# Altium schematic symbol library myRLC.SchLib: 41 symbols
Pins are listed as number, name and electrical type; pins without a type are passive.

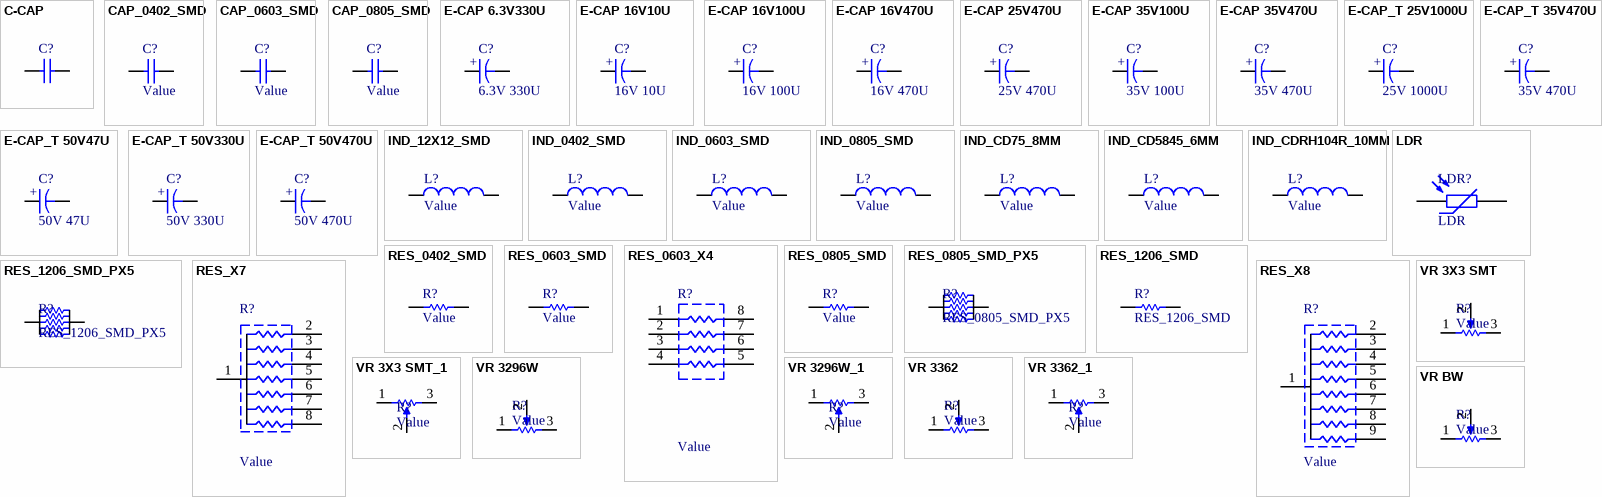
[diagram p0: symbols C-CAP to VR BW]

## C-CAP
designator C?
Ceramic Capacitor; Published: 8-Jun-2000; LatestRevisionDate: 17-Jul-2002; LatestRevisionNote: Re-released for DXP Platform.; PackageReference: RAD-0.3; Publisher: Altium Limited
footprint C-CAP
pins: 1, 2

## CAP_0402_SMD
designator C?, comment Value
Capacitor, 0402, SMD; Published: 8-Jun-2000; LatestRevisionDate: 17-Jul-2002; LatestRevisionNote: Re-released for DXP Platform.; PackageReference: RAD-0.3; Publisher: Altium Limited
footprint CAP_0402_SMD
pins: 1, 2

## CAP_0603_SMD
designator C?, comment Value
Capacitor, 0603, SMD; Published: 8-Jun-2000; LatestRevisionDate: 17-Jul-2002; LatestRevisionNote: Re-released for DXP Platform.; PackageReference: RAD-0.3; Publisher: Altium Limited
footprint CAP_0603_SMD
pins: 1, 2

## CAP_0805_SMD
designator C?, comment Value
Capacitor, 0805, SMD; Published: 8-Jun-2000; LatestRevisionDate: 17-Jul-2002; LatestRevisionNote: Re-released for DXP Platform.; PackageReference: RAD-0.3; Publisher: Altium Limited
footprint CAP_0805_SMD
pins: 1, 2

## E-CAP 6.3V330U
designator C?, comment 6.3V 330U
E-CAP 6.3V330U; Published: 23-Sep-2002; PackageReference: CAPR5-4X5; Publisher: Altium Limited
footprint E-CAP 6.3V330U (D6.3x7.8)
pins: 1 +, 2 -

## E-CAP 16V10U
designator C?, comment 16V 10U
E-CAP 16V10U; Published: 23-Sep-2002; PackageReference: CAPR5-4X5; Publisher: Altium Limited
footprint E-CAP 16V10U (D4x5)
pins: 1 +, 2 -

## E-CAP 16V100U
designator C?, comment 16V 100U
E-CAP 16V100U; Published: 23-Sep-2002; PackageReference: CAPR5-4X5; Publisher: Altium Limited
footprint E-CAP 16V100U (D6.3x5.4)
pins: 1 +, 2 -

## E-CAP 16V470U
designator C?, comment 16V 470U
E-CAP 16V470U; Published: 23-Sep-2002; PackageReference: CAPR5-4X5; Publisher: Altium Limited
footprint E-CAP 16V470U (D8x10.4)
pins: 1 +, 2 -

## E-CAP 25V470U
designator C?, comment 25V 470U
E-CAP 25V470U; Published: 23-Sep-2002; PackageReference: CAPR5-4X5; Publisher: Altium Limited
footprint E-CAP 25V470U (D9x10.4)
pins: 1 +, 2 -

## E-CAP 35V100U
designator C?, comment 35V 100U
E-CAP 35V100U; Published: 23-Sep-2002; PackageReference: CAPR5-4X5; Publisher: Altium Limited
footprint E-CAP 35V100U (D6.3x7.8)
pins: 1 +, 2 -

## E-CAP 35V470U
designator C?, comment 35V 470U
E-CAP 35V470U; Published: 23-Sep-2002; PackageReference: CAPR5-4X5; Publisher: Altium Limited
footprint E-CAP 35V470U (D10x10.5)
pins: 1 +, 2 -

## E-CAP_T 25V1000U
designator C?, comment 25V 1000U
E-CAP 25V1000U, Through Hole; Published: 23-Sep-2002; PackageReference: CAPR5-4X5; Publisher: Altium Limited
footprint E-CAP_T 25V1000U
pins: 1 +, 2 -

## E-CAP_T 35V470U
designator C?, comment 35V 470U
E-CAP 35V470U, Through Hole; Published: 23-Sep-2002; PackageReference: CAPR5-4X5; Publisher: Altium Limited
footprint E-CAP_T 35V470U
pins: 1 +, 2 -

## E-CAP_T 50V47U
designator C?, comment 50V 47U
E-CAP 50V47U, Through Hole; Published: 23-Sep-2002; PackageReference: CAPR5-4X5; Publisher: Altium Limited
footprint E-CAP_T 50V47U
pins: 1 +, 2 -

## E-CAP_T 50V330U
designator C?, comment 50V 330U
E-CAP 50V330U, Through Hole; Published: 23-Sep-2002; PackageReference: CAPR5-4X5; Publisher: Altium Limited
footprint E-CAP_T 50V330U
pins: 1 +, 2 -

## E-CAP_T 50V470U
designator C?, comment 50V 470U
E-CAP 50V470U, Through Hole; Published: 23-Sep-2002; PackageReference: CAPR5-4X5; Publisher: Altium Limited
footprint E-CAP_T 50V470U
pins: 1 +, 2 -

## IND_12X12_SMD
designator L?, comment Value
Inductor, 12x12, SMD; Code_IEC: 1005; Published: 8-Jun-2000; LatestRevisionDate: 29-May-2009; LatestRevisionNote: IPC-7351 Footprint Added.; PackageReference: 0402-A; Publisher: Altium Limited; PackageDescription: Chip Inductor; Code_JEITA: 0402
footprint IND_12x12
pins: 1, 2

## IND_0402_SMD
designator L?, comment Value
Inductor, 0402, SMD; Code_IEC: 1005; Published: 8-Jun-2000; LatestRevisionDate: 29-May-2009; LatestRevisionNote: IPC-7351 Footprint Added.; PackageReference: 0402-A; Publisher: Altium Limited; PackageDescription: Chip Inductor; Code_JEITA: 0402; Value: Value
footprint IND_0402_SMD
pins: 1, 2

## IND_0603_SMD
designator L?, comment Value
Inductor, 0603, SMD; Code_IEC: 1005; Published: 8-Jun-2000; LatestRevisionDate: 29-May-2009; LatestRevisionNote: IPC-7351 Footprint Added.; PackageReference: 0402-A; Publisher: Altium Limited; PackageDescription: Chip Inductor; Code_JEITA: 0402; Value: Value
footprint IND_0603_SMD
pins: 1, 2

## IND_0805_SMD
designator L?, comment Value
Inductor, 0805, SMD; Code_IEC: 1005; Published: 8-Jun-2000; LatestRevisionDate: 29-May-2009; LatestRevisionNote: IPC-7351 Footprint Added.; PackageReference: 0402-A; Publisher: Altium Limited; PackageDescription: Chip Inductor; Code_JEITA: 0402; Value: Value
footprint IND_0805_SMD
pins: 1, 2

## IND_CD75_8MM
designator L?, comment Value
Inductor, CD75, 8MM; Code_IEC: 1005; Published: 8-Jun-2000; LatestRevisionDate: 29-May-2009; LatestRevisionNote: IPC-7351 Footprint Added.; PackageReference: 0402-A; Publisher: Altium Limited; PackageDescription: Chip Inductor; Code_JEITA: 0402; Value: Value
footprint IND_CD75_8MM
pins: 1, 2

## IND_CD5845_6MM
designator L?, comment Value
Inductor, CD5845, 6MM; Code_IEC: 1005; Published: 8-Jun-2000; LatestRevisionDate: 29-May-2009; LatestRevisionNote: IPC-7351 Footprint Added.; PackageReference: 0402-A; Publisher: Altium Limited; PackageDescription: Chip Inductor; Code_JEITA: 0402; Value: Value
footprint IND_CD5845_6MM
pins: 1, 2

## IND_CDRH104R_10MM
designator L?, comment Value
Inductor, CDRH104R, 10MM; Code_IEC: 1005; Published: 8-Jun-2000; LatestRevisionDate: 29-May-2009; LatestRevisionNote: IPC-7351 Footprint Added.; PackageReference: 0402-A; Publisher: Altium Limited; PackageDescription: Chip Inductor; Code_JEITA: 0402; Value: Value
footprint IND_CDRH104R_10MM
pins: 1, 2

## LDR
designator LDR?
Varistor (Light-dependent resistor); Published: 24-Mar-1999; LatestRevisionDate: 29-May-2009; LatestRevisionNote: IPC-7351 Footprint Added.; PackageVersion: Mar-2003; PackageReference: 6-0805; Publisher: Altium Limited; PackageDescription: Chip Resistor 0805 Case Size; Code_IPC: RESC2012
footprint LDR
pins: 1, 2

## RES_0402_SMD
designator R?, comment Value
Resistor, 0402, SMD; Published: 8-Jun-2000; LatestRevisionDate: 17-Jul-2002; LatestRevisionNote: Re-released for DXP Platform.; PackageReference: AXIAL-0.3; Publisher: Altium Limited; Value: Value
footprint RES_0402_SMD
pins: 1, 2

## RES_0603_SMD
designator R?, comment Value
Resistor, 0603, SMD; Published: 8-Jun-2000; LatestRevisionDate: 17-Jul-2002; LatestRevisionNote: Re-released for DXP Platform.; PackageReference: AXIAL-0.3; Publisher: Altium Limited; Value: Value
footprint RES_0603_SMD
pins: 1, 2

## RES_0603_X4
designator R?, comment Value
Resistor Network, 0603, SMD, X4; Published: 24-Mar-1999; LatestRevisionDate: 29-May-2009; LatestRevisionNote: IPC-7351 Footprint Added.; PackageReference: SO-16; Publisher: Altium Limited; PackageDescription: 16-Pin Small Outline Integrated Circuit 1.27 mm Pitch; Code_JEDEC: MS-012-AC; Code_IPC: SOIC127P600-16; Value: Value
footprint RES_0603_X4
pins: 1, 2, 3, 4, 5, 6, 7, 8

## RES_0805_SMD
designator R?, comment Value
Resistor, 0805, SMD; Published: 8-Jun-2000; LatestRevisionDate: 17-Jul-2002; LatestRevisionNote: Re-released for DXP Platform.; PackageReference: AXIAL-0.3; Publisher: Altium Limited; Value: Value
footprint RES_0805_SMD
pins: 1, 2

## RES_0805_SMD_PX5
designator R?
Resistor, 0805, SMD, 5pcs; Published: 8-Jun-2000; LatestRevisionDate: 17-Jul-2002; LatestRevisionNote: Re-released for DXP Platform.; PackageReference: AXIAL-0.3; Publisher: Altium Limited; Value: Value
footprint RES_0805_SMD_PX5
pins: 1, 2

## RES_1206_SMD
designator R?
Resistor, 1206, SMD; Published: 8-Jun-2000; LatestRevisionDate: 17-Jul-2002; LatestRevisionNote: Re-released for DXP Platform.; PackageReference: AXIAL-0.3; Publisher: Altium Limited; Value: Value
footprint RES_1206_SMD
pins: 1, 2

## RES_1206_SMD_PX5
designator R?
Resistor, 1206, SMD, 5pcs; Published: 8-Jun-2000; LatestRevisionDate: 17-Jul-2002; LatestRevisionNote: Re-released for DXP Platform.; PackageReference: AXIAL-0.3; Publisher: Altium Limited; Value: Value
footprint RES_1206_SMD_PX5
pins: 1, 2

## RES_X7
designator R?, comment Value
Resistor Network, Through Hole, X7; Published: 24-Mar-1999; LatestRevisionDate: 29-May-2009; LatestRevisionNote: IPC-7351 Footprint Added.; PackageReference: SO-16; Publisher: Altium Limited; PackageDescription: 16-Pin Small Outline Integrated Circuit 1.27 mm Pitch; Code_JEDEC: MS-012-AC; Code_IPC: SOIC127P600-16; Value: Value
footprint RES_X7
pins: 1, 2, 3, 4, 5, 6, 7, 8

## RES_X8
designator R?, comment Value
Resistor Network, Through Hole, X7; Published: 24-Mar-1999; LatestRevisionDate: 29-May-2009; LatestRevisionNote: IPC-7351 Footprint Added.; PackageReference: SO-16; Publisher: Altium Limited; PackageDescription: 16-Pin Small Outline Integrated Circuit 1.27 mm Pitch; Code_JEDEC: MS-012-AC; Code_IPC: SOIC127P600-16; Value: Value
footprint RES_X8
pins: 1, 2, 3, 4, 5, 6, 7, 8, 9

## VR 3X3 SMT
designator R?, comment Value
Potentiometer; Sim Note: Enter the Resistance value and the set point into parameter fields.; Set Position: 0.5; Published: 8-Jun-2000; LatestRevisionDate: 17-Jul-2002; LatestRevisionNote: Re-released for DXP Platform.; PackageReference: VR5; Publisher: Altium Limited
footprint VR 3X3 SMT
pins: 1, 2, 3
1 alternate drawing of the same symbol

## VR 3X3 SMT_1
designator R?, comment Value
Potentiometer; Sim Note: Enter the Resistance value and the set point into parameter fields.; Set Position: 0.5; Published: 8-Jun-2000; LatestRevisionDate: 17-Jul-2002; LatestRevisionNote: Re-released for DXP Platform.; PackageReference: VR5; Publisher: Altium Limited
footprint VR 3X3 SMT
pins: 1, 2, 3
1 alternate drawing of the same symbol

## VR 3296W
designator R?, comment Value
Potentiometer; Sim Note: Enter the Resistance value and the set point into parameter fields.; Set Position: 0.5; Published: 8-Jun-2000; LatestRevisionDate: 17-Jul-2002; LatestRevisionNote: Re-released for DXP Platform.; PackageReference: VR5; Publisher: Altium Limited
footprint VR 3296W
pins: 1, 2, 3
1 alternate drawing of the same symbol

## VR 3296W_1
designator R?, comment Value
Potentiometer; Sim Note: Enter the Resistance value and the set point into parameter fields.; Set Position: 0.5; Published: 8-Jun-2000; LatestRevisionDate: 17-Jul-2002; LatestRevisionNote: Re-released for DXP Platform.; PackageReference: VR5; Publisher: Altium Limited
footprint VR 3296W
pins: 1, 2, 3
1 alternate drawing of the same symbol

## VR 3362
designator R?, comment Value
Potentiometer; Sim Note: Enter the Resistance value and the set point into parameter fields.; Set Position: 0.5; Published: 8-Jun-2000; LatestRevisionDate: 17-Jul-2002; LatestRevisionNote: Re-released for DXP Platform.; PackageReference: VR5; Publisher: Altium Limited
footprint VR 3362
pins: 1, 2, 3
1 alternate drawing of the same symbol

## VR 3362_1
designator R?, comment Value
Potentiometer; Sim Note: Enter the Resistance value and the set point into parameter fields.; Set Position: 0.5; Published: 8-Jun-2000; LatestRevisionDate: 17-Jul-2002; LatestRevisionNote: Re-released for DXP Platform.; PackageReference: VR5; Publisher: Altium Limited
footprint VR 3362
pins: 1, 2, 3
1 alternate drawing of the same symbol

## VR BW
designator R?, comment Value
Potentiometer; Sim Note: Enter the Resistance value and the set point into parameter fields.; Set Position: 0.5; Published: 8-Jun-2000; LatestRevisionDate: 17-Jul-2002; LatestRevisionNote: Re-released for DXP Platform.; PackageReference: VR5; Publisher: Altium Limited
footprint VR BW
pins: 1, 2, 3
1 alternate drawing of the same symbol

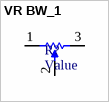
[diagram p1: symbol VR BW_1]

## VR BW_1
designator R?, comment Value
Potentiometer; Sim Note: Enter the Resistance value and the set point into parameter fields.; Set Position: 0.5; Published: 8-Jun-2000; LatestRevisionDate: 17-Jul-2002; LatestRevisionNote: Re-released for DXP Platform.; PackageReference: VR5; Publisher: Altium Limited
footprint VR BW
pins: 1, 2, 3
1 alternate drawing of the same symbol